# EAGLE library part DRV592 (library ic)
DRV592: 3A high-efficiency H-bridge (Texas Instruments) +2.8...+5.5V, ±3A Iout 1MHz fmax PWM driver for thermoelectric coolers
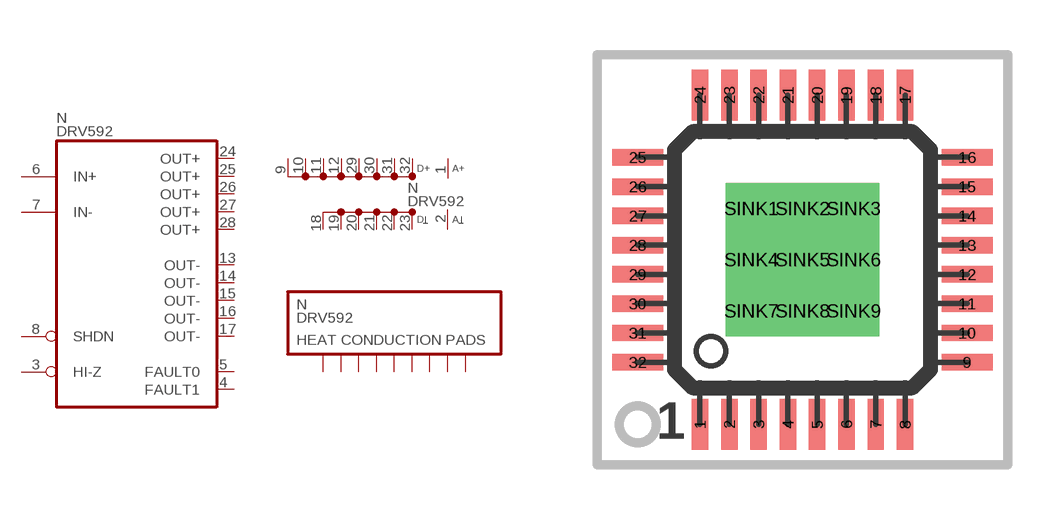
[diagram p60: symbol with the pads of S-PQFP-G32; footprint S-PQFP-G32]

Designator prefix N; gates  =DRV592 SINK=DRV592SINK P=DRV592V+-

## DRV592  [S-PQFP-G32]
1  P:A+  pwr
2  P:AGND  pwr
3   :HI-Z  in
4   :FAULT1  out
5   :FAULT0  out
6   :IN+  in
7   :IN-  in
8   :SHDN  in
9  P:D+  pwr
10  P:D+  pwr
11  P:D+  pwr
12  P:D+  pwr
13   :OUT-  out
14   :OUT-  out
15   :OUT-  out
16   :OUT-  out
17   :OUT-  out
18  P:DGND  pwr
19  P:DGND  pwr
20  P:DGND  pwr
21  P:DGND  pwr
22  P:DGND  pwr
23  P:DGND  pwr
24   :OUT+  out
25   :OUT+  out
26   :OUT+  out
27   :OUT+  out
28   :OUT+  out
29  P:D+  pwr
30  P:D+  pwr
31  P:D+  pwr
32  P:D+  pwr
SINK1  SINK:1
SINK2  SINK:2
SINK3  SINK:3
SINK4  SINK:4
SINK5  SINK:5
SINK6  SINK:6
SINK7  SINK:7
SINK8  SINK:8
SINK9  SINK:9

## Footprint S-PQFP-G32 (pad centres in mm)
S-PQFP-G32, SMD PowerPad Quad Flatpack (7*7mm), 32 pins with heat conduction pads
smd 0.45 x 1.4: 1 -2.8,-4.5; 2 -2,-4.5; 3 -1.2,-4.5; 4 -0.4,-4.5; 5 0.4,-4.5; 6 1.2,-4.5; 7 2,-4.5; 8 2.8,-4.5; 17 2.8,4.5; 18 2,4.5; 19 1.2,4.5; 20 0.4,4.5; 21 -0.4,4.5; 22 -1.2,4.5; 23 -2,4.5; 24 -2.8,4.5
smd 1.4 x 0.45: 9 4.5,-2.8; 10 4.5,-2; 11 4.5,-1.2; 12 4.5,-0.4; 13 4.5,0.4; 14 4.5,1.2; 15 4.5,2; 16 4.5,2.8; 25 -4.5,2.8; 26 -4.5,2; 27 -4.5,1.2; 28 -4.5,0.4; 29 -4.5,-0.4; 30 -4.5,-1.2; 31 -4.5,-2; 32 -4.5,-2.8
drill 0.813 pad 1.397 square: SINK1 -1.4,1.4; SINK2 0,1.4; SINK3 1.4,1.4; SINK4 -1.4,0; SINK5 0,0; SINK6 1.4,0; SINK7 -1.4,-1.4; SINK8 0,-1.4; SINK9 1.4,-1.4